# EAGLE library part ARDUINO_PROMICRO (library oddWorld)
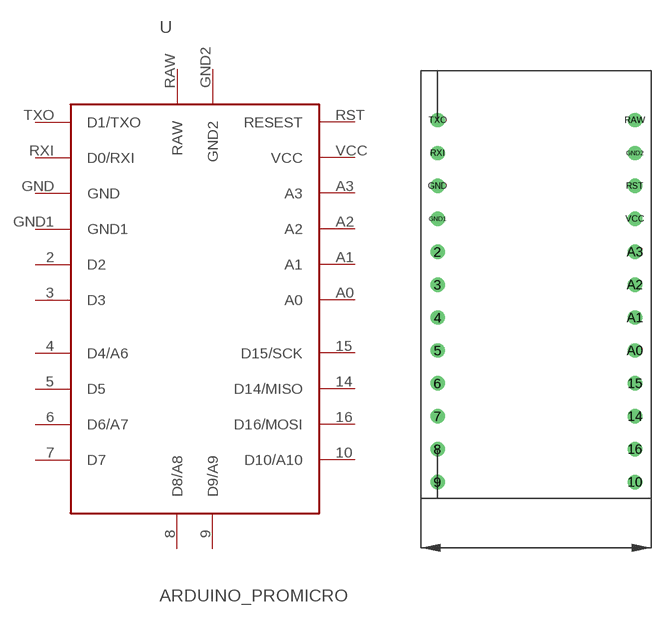
[diagram p0: symbol with the pads of ARDUINO_PROMICRO; footprint ARDUINO_PROMICRO]

Designator prefix -

## ARDUINO_PROMICRO  [ARDUINO_PROMICRO]
2  D2
3  D3
4  D4/A6
5  D5
6  D6/A7
7  D7
8  D8/A8
9  D9/A9
10  D10/A10
14  D14/MISO
15  D15/SCK
16  D16/MOSI
A0  A0
A1  A1
A2  A2
A3  A3
GND  GND
GND1  GND1
GND2  GND2
RAW  RAW
RST  RESEST
RXI  D0/RXI
TXO  D1/TXO
VCC  VCC

## Footprint ARDUINO_PROMICRO (pad centres in mm)
drill 0.6: 2 1.27,19.05; 3 1.27,16.51; 4 1.27,13.97; 5 1.27,11.43; 6 1.27,8.89; 7 1.27,6.35; 8 1.27,3.81; 9 1.27,1.27; 10 16.51,1.27; 14 16.51,6.35; 15 16.51,8.89; 16 16.51,3.81; A0 16.51,11.43; A1 16.51,13.97; A2 16.51,16.51; A3 16.51,19.05; GND 1.27,24.13; GND1 1.27,21.59; GND2 16.51,26.67; RAW 16.51,29.21; RST 16.51,24.13; RXI 1.27,26.67; TXO 1.27,29.21; VCC 16.51,21.59